# Altium footprint library SMIOT_Lib_FootPrint.PcbLib: 34 footprints (part 1 of 3)
Each footprint in its own frame and in the unit in brackets; x right, y up, seen from the top. Pads: shape width x height; smd on the part's side, far side on the other; paste and mask are expansions set on the pad; w line width, h text height; cw(c..) or ccw(c..) is an arc to the next point about the centre after c.
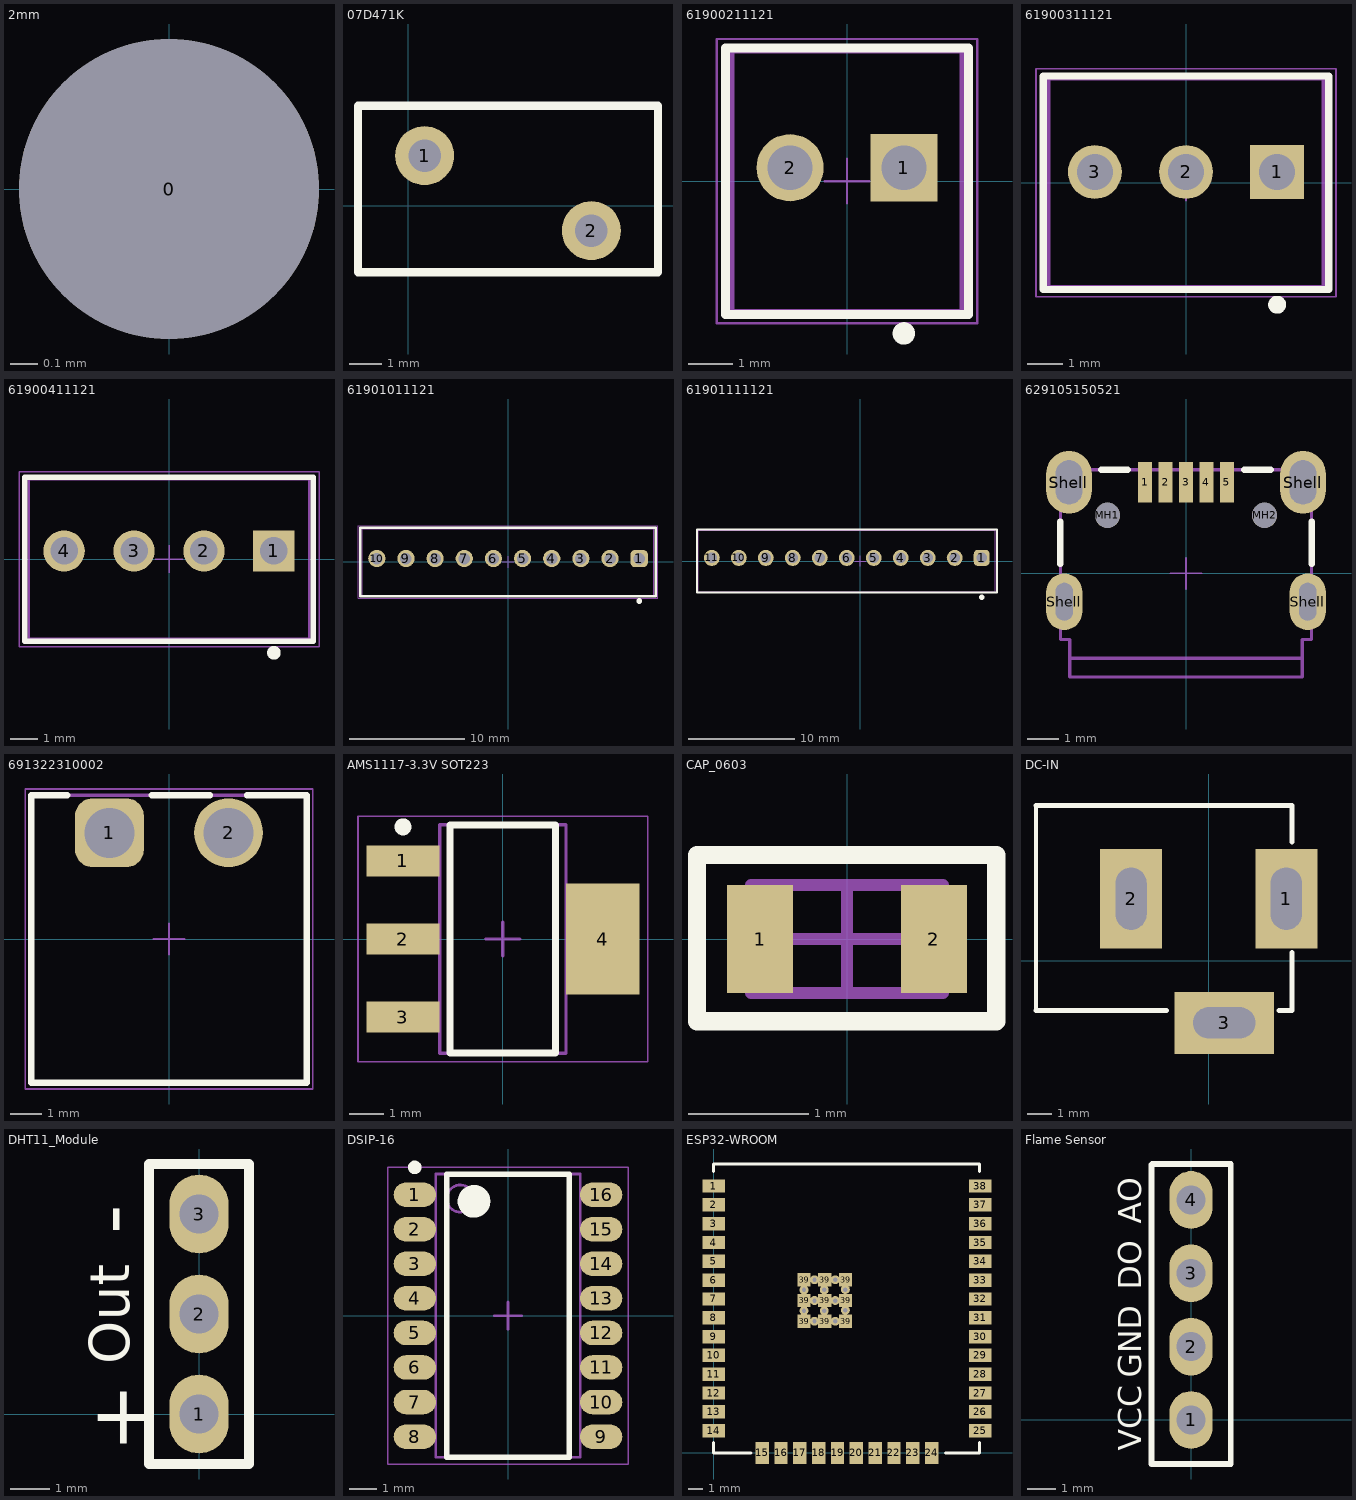
[diagram p0: the footprints below, top view; thin cyan lines are the x and y axes]

## 2mm [mm]
pads (1):
  round 1.1 hole 1.1 unplated mask+0: 0(0,0)

## 07D471K [mm] "Varistor 07D471K 470V"
pads (2):
  round 1.8 hole 1: 1(0.508,1.524) 2(5.588,-0.762)
Top Overlay:
  lines w0.254: -1.524,-2.032 7.62,-2.032 7.62,3.048 -1.524,3.048 -1.524,-2.032
3D body "MOV-07D471K--3DModel-STEP-56544.STEP": height 12.5, standoff -16.5, extent -1.452,-1.992 7.548,3.008

## 61900211121 [mm] "2.54mm Male Locking Header, 2p"
height 11.5
pads (2):
  rect 1.5x1.5 hole 1: 1(1.27,0.3)
  round 1.5 hole 1: 2(-1.27,0.3)
Top Overlay:
  circle w0.25: c1.27,-3.4 r0.125
  lines w0.2: -2.71,-2.975 2.71,-2.975 2.71,2.975 -2.71,2.975 -2.71,-2.975
Mechanical 13:
  lines w0.1: -2.56,-2.9 -2.56,2.9 2.56,2.9 2.56,-2.9 -2.56,-2.9
Mechanical 15:
  lines w0.05: -0.5,0 0.5,0 ; 0,-0.5 0,0.5 ; -2.91,-3.175 -2.91,3.175 2.91,3.175 2.91,-3.175 -2.91,-3.175
3D body "61900211121.stp": height 11.53, standoff -3.37, extent -2.54,-2.9 2.54,2.9

## 61900311121 [mm] "2.54mm Male Locking Header, 3p"
height 11.5
pads (3):
  rect 1.5x1.5 hole 1: 1(2.54,0.3)
  round 1.5 hole 1: 2(0,0.3) 3(-2.54,0.3)
Top Overlay:
  circle w0.25: c2.54,-3.4 r0.125
  lines w0.2: -3.98,-2.975 3.98,-2.975 3.98,2.975 -3.98,2.975 -3.98,-2.975
Mechanical 13:
  lines w0.1: -3.83,-2.9 -3.83,2.9 3.83,2.9 3.83,-2.9 -3.83,-2.9
Mechanical 15:
  lines w0.05: -0.5,0 0.5,0 ; 0,-0.5 0,0.5 ; -4.18,-3.175 -4.18,3.175 4.18,3.175 4.18,-3.175 -4.18,-3.175
3D body "61900311121.stp": height 11.53, standoff -3.37, extent -3.81,-2.9 3.81,2.9

## 61900411121 [mm]
pads (4):
  rect 1.5x1.5 hole 1: 1(3.81,0.3)
  round 1.5 hole 1: 2(1.27,0.3) 3(-1.27,0.3) 4(-3.81,0.3)
Top Overlay:
  circle w0.25: c3.81,-3.4 r0.125
  lines w0.2: -5.25,-2.975 -5.25,2.975 5.25,2.975 5.25,-2.975 -5.25,-2.975
Mechanical 13:
  lines w0.1: -5.1,-2.9 5.1,-2.9 5.1,2.9 -5.1,2.9 -5.1,-2.9
Mechanical 15:
  lines w0.05: -0.5,0 0.5,0 ; 0,-0.5 0,0.5 ; -5.45,-3.175 5.45,-3.175 5.45,3.175 -5.45,3.175 -5.45,-3.175
3D body "61900411121.stp": height 11.53, standoff -3.37, extent -5.08,-2.9 5.08,2.9

## 61901011121 [mm] "2.54mm Male Locking Header, 10p"
height 11.5
pads (10):
  rrect50% 1.5x1.5 hole 1: 1(11.43,0.3)
  round 1.5 hole 1: 2(8.89,0.3) 3(6.35,0.3) 4(3.81,0.3) 5(1.27,0.3) 6(-1.27,0.3) 7(-3.81,0.3) 8(-6.35,0.3) 9(-8.89,0.3) 10(-11.43,0.3)
Top Overlay:
  circle w0.25: c11.43,-3.4 r0.125
  lines w0.2: -12.87,-2.975 12.87,-2.975 12.87,2.975 -12.87,2.975 -12.87,-2.975
Top Courtyard:
  lines w0.05: -0.5,0 0.5,0 ; 0,-0.5 0,0.5 ; -13.07,-3.175 -13.07,3.175 13.07,3.175 13.07,-3.175 -13.07,-3.175
Top Designator:
  text ".Designator" at -7.498,-0.5 h1.5
Top Component Outline:
  lines w0.1: -12.72,-2.9 -12.72,2.9 12.72,2.9 12.72,-2.9 -12.72,-2.9
3D body "61901011121.stp": height 11.53, standoff -3.37, extent -12.7,-2.9 12.7,2.9

## 61901111121 [mm] "2.54mm Male Locking Header, 11p"
height 11.5
pads (11):
  rrect50% 1.5x1.5 hole 1: 1(11.43,0.3)
  round 1.5 hole 1: 2(8.89,0.3) 3(6.35,0.3) 4(3.81,0.3) 5(1.27,0.3) 6(-1.27,0.3) 7(-3.81,0.3) 8(-6.35,0.3) 9(-8.89,0.3) 10(-11.43,0.3) 11(-13.97,0.3)
Top Overlay:
  circle w0.25: c11.43,-3.4 r0.125
  lines w0.2: -15.367,-2.975 12.87,-2.975 12.87,2.975 -15.367,2.975 -15.367,-2.975
Top Courtyard:
  lines w0.05: -0.5,0 0.5,0 ; 0,-0.5 0,0.5
Top Designator:
  text ".Designator" at -7.498,-0.5 h1.5
Top Component Outline:
  lines w0.1: -15.24,-2.9 -15.24,2.9 12.72,2.9 12.72,-2.9 -15.24,-2.9
3D body "61901011121.stp": height 11.53, standoff -3.37, extent -12.7,-2.9 12.7,2.9

## 629105150521 [mm]
pads (11):
  rect 0.45x1.3 smd: 1(-1.3,2.9) 2(-0.65,2.9) 3(0,2.9) 4(0.65,2.9) 5(1.3,2.9)
  round 0.8 hole 0.8 unplated: MH1(-2.5,1.85) MH2(2.5,1.85)
  oval 1.15x1.8 hole 0.55 slot 1.2 at 90 deg: Shell(-3.875,-0.9) Shell(3.875,-0.9)
  oval 1.45x2 hole 0.85 slot 1.4 at 90 deg: Shell(-3.725,2.9) Shell(3.725,2.9)
Top Overlay:
  lines w0.2: -4,0.3 -4,1.65 ; -2.7,3.3 -1.85,3.3 ; 1.85,3.3 2.7,3.3 ; 4,0.3 4,1.65
Top Courtyard:
  lines w0.1: -3.7,-2.7 3.7,-2.7
  text "PCB Edge" at -1.3,-3.3 h0.41
Mechanical 13:
  lines w0.1: -4,-2.1 -3.7,-2.1 -3.7,-3.3 3.7,-3.3 3.7,-2.1 4,-2.1 4,3.3 -4,3.3 -4,-2.1
Mechanical 15:
  lines w0.05: -0.5,0 0.5,0 ; 0,-0.5 0,0.5
3D body "629105150521.stp": height 2.75, standoff -1.77, extent -4,-3.3 4,3.303

## 691322310002 [mm] "Horizontal PCB Header, pitch 3.81mm, 02p"
height 7
pads (2):
  rrect50% 2.2x2.2 hole 1.6: 1(-1.905,3.4)
  round 2.2 hole 1.6: 2(1.905,3.4)
Top Overlay:
  lines w0.2: -3.255,4.6 -4.405,4.6 -4.405,-4.6 4.405,-4.6 4.405,4.6 2.495,4.6 ; -0.555,4.6 1.315,4.6
Top Courtyard:
  lines w0.05: -4.605,-4.8 -4.605,4.8 4.605,4.8 4.605,-4.8 -4.605,-4.8
Top Designator:
  text ".Designator" at -7.498,-0.5 h1.5
Top 3D Body:
  lines w0.1: -4.405,-4.6 4.405,-4.6 4.405,4.6 -4.405,4.6 -4.405,-4.6
Top Component Outline:
  lines w0.1: -4.405,-4.6 -4.405,4.6 4.405,4.6 4.405,-4.6 -4.405,-4.6
Top Component Center:
  lines w0.05: -0.5,0 0.5,0 ; 0,-0.5 0,0.5
3D body "691322310002.stp": height 7.25, standoff -3.45, extent -4.405,-4.6 4.405,4.6

## AMS1117-3.3V SOT223 [mm] "SOT223, 4-Leads, Body 6.51x7.00mm, Pitch 2.29mm"
height 1.8
pads (4):
  rect 2.15x0.9 smd: 1(-2.93,2.29) 2(-2.93,0) 3(-2.93,-2.29)
  rect 2.15x3.25 smd: 4(2.93,0)
Top Overlay:
  circle w0.25: c-2.93,3.29 r0.125
  lines w0.2: -1.55,-3.35 1.55,-3.35 1.55,3.35 -1.55,3.35 -1.55,-3.35
Mechanical 13:
  lines w0.1: -1.855,-3.355 1.855,-3.355 1.855,3.355 -1.855,3.355 -1.855,-3.355
Mechanical 15:
  lines w0.05: -4.25,-3.6 4.25,-3.6 4.25,3.6 -4.25,3.6 -4.25,-3.6
  lines w0.1: -0.5,0 0.5,0 ; 0,-0.5 0,0.5
3D body "SOT229P700X180-4N.step": height 1.8, standoff 0, extent -3.5,-3.355 3.5,3.355

## CAP_0603 [mm]
pads (2):
  rect 0.55x0.9 smd: 1(-0.725,0) 2(0.725,0)
Top Overlay:
  lines w0.152: -1.25,-0.686 1.245,-0.686 1.245,0.7 -1.25,0.7 -1.25,-0.686
Mechanical 13:
  lines w0.1: -0.8,-0.45 0.8,-0.45 0.8,0.45 -0.8,0.45 -0.8,-0.45
Mechanical 15:
  lines w0.05: -1.25,-0.7 1.25,-0.7 1.25,0.7 -1.25,0.7 -1.25,-0.7
  lines w0.1: -0.45,0 0.45,0 ; 0,-0.45 0,0.45
3D body: height 0.5, standoff 0, extent 0.5,-0.45 0.8,0.45
3D body: height 0.5, standoff 0, extent -0.8,-0.45 -0.5,0.45
3D body: height 0.5, standoff 0, extent -0.5,-0.45 0.5,0.45

## DC-IN [mil]
pads (3):
  rect 100x160 hole 50 slot 100 at 90 deg: 1(125,100) 2(-125,100)
  rect 160x100 hole 50 slot 100 at 0 deg: 3(25,-100)
Top Overlay:
  lines w7: -278,-80 -278,250
  lines w8: -278,-80 -68,-80 ; -278,250 134,250 134,191 ; 113,-80 134,-80 134,-76 134,13
3D body "SW3dPS-dc range - dc connector[4840.2201].STEP": height 433.67, standoff -137.2, extent -410.35,-105.12 134,269.12

## DHT11_Module [mm]
pads (3):
  oval 1.5x2 hole 1: 1(0,0) 2(0,2.54) 3(0,5.08)
Top Overlay:
  lines w0.254: -1.27,-1.27 1.27,-1.27 1.27,6.35 -1.27,6.35 -1.27,-1.27
  text "+" at -2.794,-0.762 h1.52
  text "-" at -1.524,4.572 h1.52
  text "Out" at -1.778,1.27 h1.02
3D body "KY-015.step": height 3.61, standoff -24.09, extent -0.991,-5.079 7.509,10.921

## DSIP-16 [mm]
pads (16):
  oval 1.55x0.9 smd: 1(-3.425,4.445) 2(-3.425,3.175) 3(-3.425,1.905) 4(-3.425,0.635) 5(-3.425,-0.635) 6(-3.425,-1.905) 7(-3.425,-3.175) 8(-3.425,-4.445) 9(3.425,-4.445) 10(3.425,-3.175) 11(3.425,-1.905) 12(3.425,-0.635) 13(3.425,0.635) 14(3.425,1.905) 15(3.425,3.175) 16(3.425,4.445)
Top Overlay:
  circle w0.25: c-3.425,5.445 r0.125
  circle w0.6: c-1.25,4.2 r0.3
  lines w0.2: -2.25,-5.2 -2.25,5.2 2.25,5.2 2.25,-5.2 -2.25,-5.2
Top Courtyard:
  lines w0.05: -4.425,-5.45 -4.425,5.45 4.425,5.45 4.425,-5.45 -4.425,-5.45
  lines w0.1: -0.5,0 0.5,0 ; 0,-0.5 0,0.5
Top Assembly:
  circle w0.1: c-1.75,4.3 r0.5
  lines w0.1: -2.65,-5.2 -2.65,5.2 2.65,5.2 2.65,-5.2 -2.65,-5.2
3D body "SOIC127P750X225_HS-17N.step": height 2.25, standoff 0, extent -3.75,-5.2 3.75,5.2

## ESP32-WROOM [mm]
pads (59):
  rect 1.5x0.9 smd mask+0.102: 1(0,18.01) 2(0,16.74) 3(0,15.47) 4(0,14.2) 5(0,12.93) 6(0,11.66) 7(0,10.39) 8(0,9.12) 9(0,7.85) 10(0,6.58) 11(0,5.31) 12(0,4.04) 13(0,2.77) 14(0,1.5) 25(18,1.5) 26(18,2.77) 27(18,4.04) 28(18,5.31) 29(18,6.58) 30(18,7.85) 31(18,9.12) 32(18,10.39) 33(18,11.66) 34(18,12.93) 35(18,14.2) 36(18,15.47) 37(18,16.74) 38(18,18.01)
  rect 0.9x1.5 smd mask+0.102: 15(3.28,0) 16(4.55,0) 17(5.82,0) 18(7.09,0) 19(8.36,0) 20(9.63,0) 21(10.9,0) 22(12.17,0) 23(13.44,0) 24(14.71,0)
  round 0.6 hole 0.3: 39(6.096,9.598) 39(6.096,10.998) 39(6.807,8.884) 39(6.807,10.284) 39(6.807,11.684) 39(7.468,9.598) 39(7.468,10.998) 39(8.204,8.884) 39(8.204,10.284) 39(8.204,11.684) 39(8.89,9.624) 39(8.89,11.024)
  rect 0.9x0.9 smd mask+0.102: 39(6.1,8.89) 39(6.1,10.29) 39(6.1,11.69) 39(7.5,8.89) 39(7.5,10.29) 39(7.5,11.69) 39(8.9,8.89) 39(8.9,10.29) 39(8.9,11.69)
Top Overlay:
  lines w0.203: 0,0.69 0,0 2.53,0 ; 0,19 0,19.5 17.94,19.5 17.94,19 ; 15.64,0 17.94,0 17.94,0.69
3D body "KiCAD-ESP-WROOM-32.step": height 3.04, standoff 0, extent -0.025,-0.025 18.045,25.515

## Flame Sensor [mm]
pads (4):
  oval 1.5x2 hole 1: 1(0,0) 2(0,2.54) 3(0,5.08) 4(0,7.62)
Top Overlay:
  lines w0.2: -1.372,-1.524 1.372,-1.524 1.372,8.865 -1.346,8.865 -1.372,8.839 -1.372,-1.524
  text "DO" at -1.724,4.518 h0.8
  text "AO" at -1.724,6.804 h0.8
  text "GND" at -1.724,1.47 h0.8
  text "VCC" at -1.724,-1.07 h0.8
3D body "Flame Sensor.SLDPRT": height 40.07, standoff -4.32, extent -1.161,-4.572 6.604,9.652